# Altium footprint library EE16-18V.PcbLib: 1 footprints
Each footprint in its own frame and in the unit in brackets; x right, y up, seen from the top. Pads: shape width x height; smd on the part's side, far side on the other; paste and mask are expansions set on the pad; w line width, h text height; cw(c..) or ccw(c..) is an arc to the next point about the centre after c.
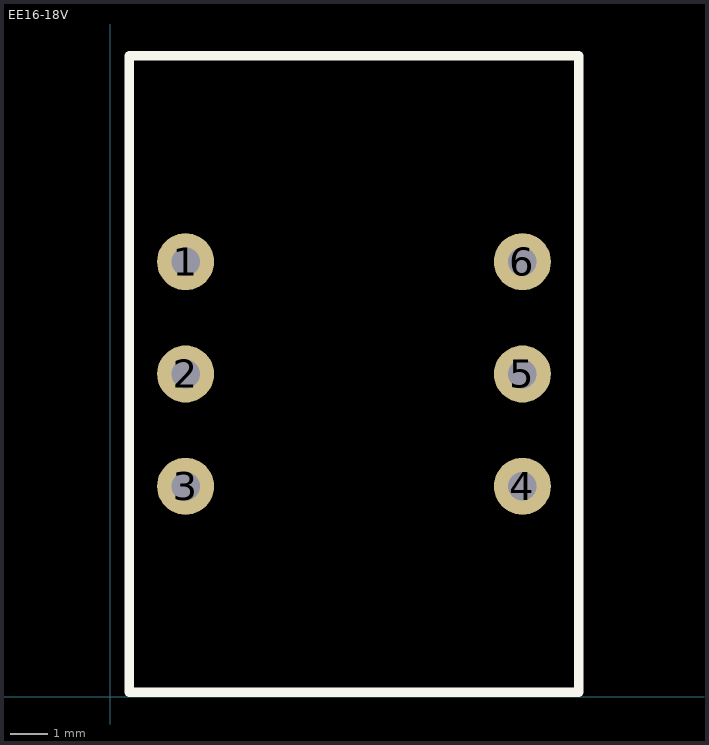
[diagram p0: the footprint, top view; thin cyan lines are the x and y axes]

## EE16-18V [mil]
pads (6):
  round 60 hole 30: 1(79.06,457.76) 2(79.06,339.65) 3(79.06,221.54) 4(433.39,221.54) 5(433.39,339.65) 6(433.39,457.76)
Top Overlay:
  lines w10: 20,5 492.44,5 492.44,674.29 20,674.29 20,5
3D body "User Library-isolator_audio.STEP": height 748.29, standoff -78.74, extent 38.22,21.01 475.23,659.32